# Altium schematic symbol library Schlib1.SchLib: 2 symbols
Pins are listed as number, name and electrical type; pins without a type are passive.

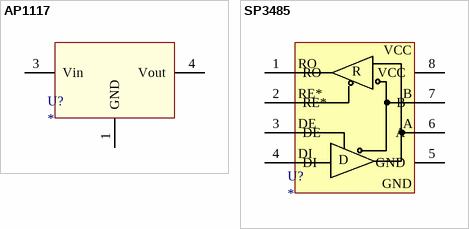
[diagram p0: symbols AP1117 to SP3485]

## AP1117
designator U?
footprint TO252-3L (D-PAK, 3-Pads, Body 6,20x6,76mm (max), IPC Medium Density)
footprint SOT-223 (SOT223, 4-Leads, Body 6,50x7,00mm (avg), Pitch 2,30mm, IPC Medium Density)
pins: 1 GND, 3 Vin, 4 Vout

## SP3485
designator U?
footprint SOIC8 (SOIC, 8-Leads, Body 4,90x3,90mm, Pitch 1,27mm, IPC Medium Density)
pins: 1 RO, 2 RE*, 3 DE, 4 DI, 5 GND, 6 A, 7 B, 8 VCC
text: R; D